# Altium schematic symbol library RXB6.SCHLIB: 1 symbol
Pins are listed as number, name and electrical type; pins without a type are passive.

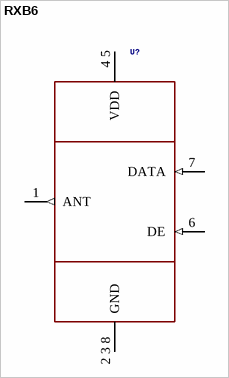
[diagram p0: symbol RXB6]

## RXB6
designator U?
GateName_1: G$1; SymbolName_1: RXB6-XXX-V; DeviceSetName: HXB6-*; LibraryName: JMR_RF_Lib; Package: RXB6-XXX-V
pins: 1 ANT (out), 2 3 8 GND (power), 4 5 VDD (power), 6 DE (in), 7 DATA (in)